# Altium footprint library TE_2-644861-2.PcbLib: 1 footprints
Each footprint in its own frame and in the unit in brackets; x right, y up, seen from the top. Pads: shape width x height; smd on the part's side, far side on the other; paste and mask are expansions set on the pad; w line width, h text height; cw(c..) or ccw(c..) is an arc to the next point about the centre after c.
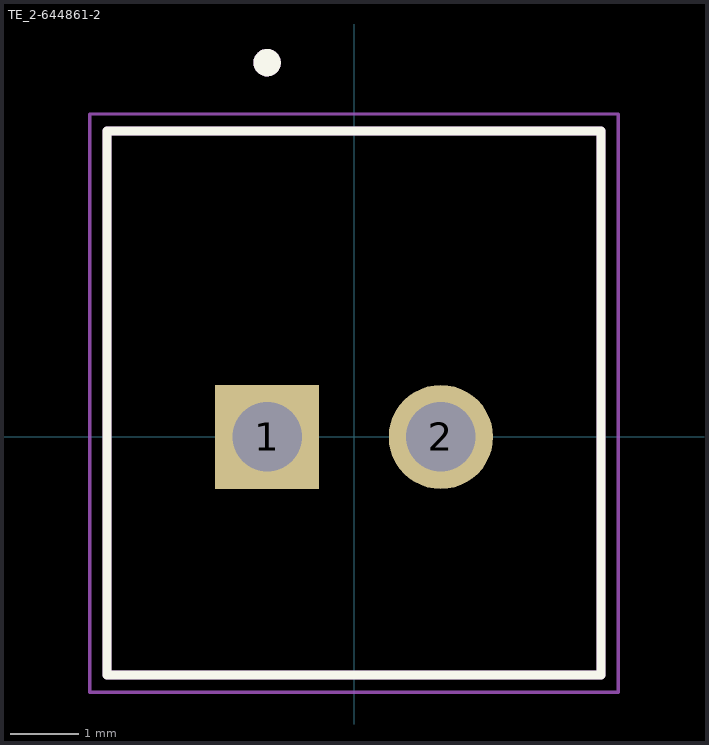
[diagram p0: the footprint, top view; thin cyan lines are the x and y axes]

## TE_2-644861-2 [mil]
pads (2):
  rect 60x60 / inner round 60 / far side rect 60x60 hole 40: 1(-50,0)
  round 60 hole 40: 2(50,0)
Top Overlay:
  circle w7.87: c-50,215.35 r3.94
  lines w5: -142.13,-137.01 -142.13,175.98 142.13,175.98 142.13,-137.01 -142.13,-137.01
Mechanical 13:
  circle w7.87: c-50,215.35 r3.94
  lines w5: -142.13,-137.01 -142.13,175.98 142.13,175.98 142.13,-137.01 -142.13,-137.01
Mechanical 15:
  lines w1.97: -151.97,-146.85 -151.97,185.83 151.97,185.83 151.97,-146.85 -151.97,-146.85